# Altium footprint library IPC-7358 BGA_Sq_100P.PcbLib: 50 footprints (part 13 of 14)
Each footprint in its own frame and in the unit in brackets; x right, y up, seen from the top. Pads: shape width x height; smd on the part's side, far side on the other; paste and mask are expansions set on the pad; w line width, h text height; cw(c..) or ccw(c..) is an arc to the next point about the centre after c.
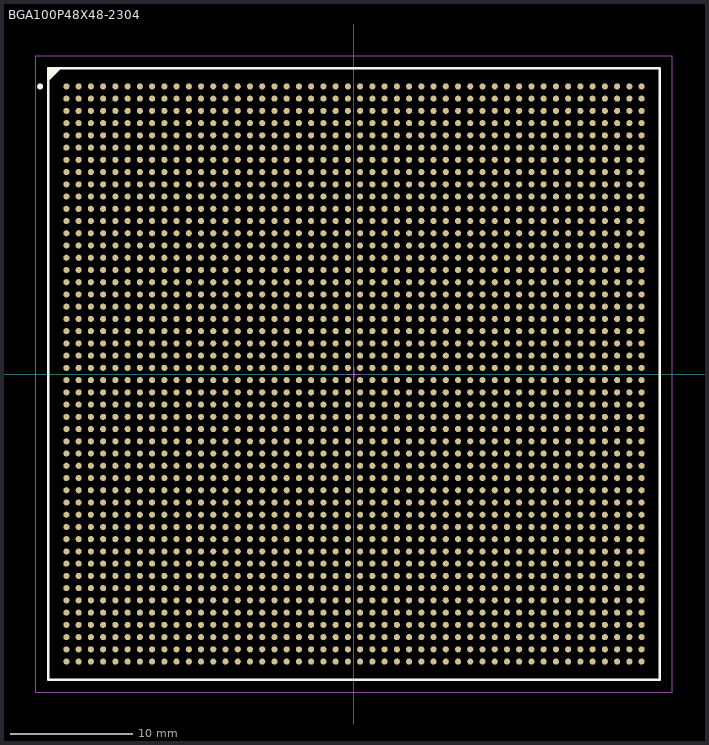
[diagram p12: the footprint, top view; thin cyan lines are the x and y axes]

## BGA100P48X48-2304 [mm] "BGA, 2304-Leads, Body 50x50mm, Pitch 1mm"
height 3.5
pads (2304):
  round 0.5 smd: A1(-23.5,23.5) A2(-22.5,23.5) A3(-21.5,23.5) A4(-20.5,23.5) A5(-19.5,23.5) A6(-18.5,23.5) A7(-17.5,23.5) A8(-16.5,23.5) A9(-15.5,23.5) A10(-14.5,23.5) A11(-13.5,23.5) A12(-12.5,23.5) A13(-11.5,23.5) A14(-10.5,23.5) A15(-9.5,23.5) A16(-8.5,23.5) A17(-7.5,23.5) A18(-6.5,23.5) A19(-5.5,23.5) A20(-4.5,23.5) A21(-3.5,23.5) A22(-2.5,23.5) A23(-1.5,23.5) A24(-0.5,23.5) A25(0.5,23.5) A26(1.5,23.5) A27(2.5,23.5) A28(3.5,23.5) A29(4.5,23.5) A30(5.5,23.5) A31(6.5,23.5) A32(7.5,23.5) A33(8.5,23.5) A34(9.5,23.5) A35(10.5,23.5) A36(11.5,23.5) A37(12.5,23.5) A38(13.5,23.5) A39(14.5,23.5) A40(15.5,23.5) A41(16.5,23.5) A42(17.5,23.5) A43(18.5,23.5) A44(19.5,23.5) A45(20.5,23.5) A46(21.5,23.5) A47(22.5,23.5) A48(23.5,23.5) AA1(-23.5,3.5) AA2(-22.5,3.5) AA3(-21.5,3.5) AA4(-20.5,3.5) AA5(-19.5,3.5) AA6(-18.5,3.5) AA7(-17.5,3.5) AA8(-16.5,3.5) AA9(-15.5,3.5) AA10(-14.5,3.5) AA11(-13.5,3.5) AA12(-12.5,3.5) AA13(-11.5,3.5) AA14(-10.5,3.5) AA15(-9.5,3.5) AA16(-8.5,3.5) AA17(-7.5,3.5) AA18(-6.5,3.5) AA19(-5.5,3.5) AA20(-4.5,3.5) AA21(-3.5,3.5) AA22(-2.5,3.5) AA23(-1.5,3.5) AA24(-0.5,3.5) AA25(0.5,3.5) AA26(1.5,3.5) AA27(2.5,3.5) AA28(3.5,3.5) AA29(4.5,3.5) AA30(5.5,3.5) AA31(6.5,3.5) AA32(7.5,3.5) AA33(8.5,3.5) AA34(9.5,3.5) AA35(10.5,3.5) AA36(11.5,3.5) AA37(12.5,3.5) AA38(13.5,3.5) AA39(14.5,3.5) AA40(15.5,3.5) AA41(16.5,3.5) AA42(17.5,3.5) AA43(18.5,3.5) AA44(19.5,3.5) AA45(20.5,3.5) AA46(21.5,3.5) AA47(22.5,3.5) AA48(23.5,3.5) AB1(-23.5,2.5) AB2(-22.5,2.5) AB3(-21.5,2.5) AB4(-20.5,2.5) AB5(-19.5,2.5) AB6(-18.5,2.5) AB7(-17.5,2.5) AB8(-16.5,2.5) AB9(-15.5,2.5) AB10(-14.5,2.5) AB11(-13.5,2.5) AB12(-12.5,2.5) AB13(-11.5,2.5) AB14(-10.5,2.5) AB15(-9.5,2.5) AB16(-8.5,2.5) AB17(-7.5,2.5) AB18(-6.5,2.5) AB19(-5.5,2.5) AB20(-4.5,2.5) AB21(-3.5,2.5) AB22(-2.5,2.5) AB23(-1.5,2.5) AB24(-0.5,2.5) AB25(0.5,2.5) AB26(1.5,2.5) AB27(2.5,2.5) AB28(3.5,2.5) AB29(4.5,2.5) AB30(5.5,2.5) AB31(6.5,2.5) AB32(7.5,2.5) AB33(8.5,2.5) AB34(9.5,2.5) AB35(10.5,2.5) AB36(11.5,2.5) AB37(12.5,2.5) AB38(13.5,2.5) AB39(14.5,2.5) AB40(15.5,2.5) AB41(16.5,2.5) AB42(17.5,2.5) AB43(18.5,2.5) AB44(19.5,2.5) AB45(20.5,2.5) AB46(21.5,2.5) AB47(22.5,2.5) AB48(23.5,2.5) AC1(-23.5,1.5) AC2(-22.5,1.5) AC3(-21.5,1.5) AC4(-20.5,1.5) AC5(-19.5,1.5) AC6(-18.5,1.5) AC7(-17.5,1.5) AC8(-16.5,1.5) AC9(-15.5,1.5) AC10(-14.5,1.5) AC11(-13.5,1.5) AC12(-12.5,1.5) AC13(-11.5,1.5) AC14(-10.5,1.5) AC15(-9.5,1.5) AC16(-8.5,1.5) AC17(-7.5,1.5) AC18(-6.5,1.5) AC19(-5.5,1.5) AC20(-4.5,1.5) AC21(-3.5,1.5) AC22(-2.5,1.5) AC23(-1.5,1.5) AC24(-0.5,1.5) AC25(0.5,1.5) AC26(1.5,1.5) AC27(2.5,1.5) AC28(3.5,1.5) AC29(4.5,1.5) AC30(5.5,1.5) AC31(6.5,1.5) AC32(7.5,1.5) AC33(8.5,1.5) AC34(9.5,1.5) AC35(10.5,1.5) AC36(11.5,1.5) AC37(12.5,1.5) AC38(13.5,1.5) AC39(14.5,1.5) AC40(15.5,1.5) AC41(16.5,1.5) AC42(17.5,1.5) AC43(18.5,1.5) AC44(19.5,1.5) AC45(20.5,1.5) AC46(21.5,1.5) AC47(22.5,1.5) AC48(23.5,1.5) AD1(-23.5,0.5) AD2(-22.5,0.5) AD3(-21.5,0.5) AD4(-20.5,0.5) AD5(-19.5,0.5) AD6(-18.5,0.5) AD7(-17.5,0.5) AD8(-16.5,0.5) AD9(-15.5,0.5) AD10(-14.5,0.5) AD11(-13.5,0.5) AD12(-12.5,0.5) AD13(-11.5,0.5) AD14(-10.5,0.5) AD15(-9.5,0.5) AD16(-8.5,0.5) AD17(-7.5,0.5) AD18(-6.5,0.5) AD19(-5.5,0.5) AD20(-4.5,0.5) AD21(-3.5,0.5) AD22(-2.5,0.5) AD23(-1.5,0.5) AD24(-0.5,0.5) AD25(0.5,0.5) AD26(1.5,0.5) AD27(2.5,0.5) AD28(3.5,0.5) AD29(4.5,0.5) AD30(5.5,0.5) AD31(6.5,0.5) AD32(7.5,0.5) AD33(8.5,0.5) AD34(9.5,0.5) AD35(10.5,0.5) AD36(11.5,0.5) AD37(12.5,0.5) AD38(13.5,0.5) AD39(14.5,0.5) AD40(15.5,0.5) AD41(16.5,0.5) AD42(17.5,0.5) AD43(18.5,0.5) AD44(19.5,0.5) AD45(20.5,0.5) AD46(21.5,0.5) AD47(22.5,0.5) AD48(23.5,0.5) AE1(-23.5,-0.5) AE2(-22.5,-0.5) AE3(-21.5,-0.5) AE4(-20.5,-0.5) AE5(-19.5,-0.5) AE6(-18.5,-0.5) AE7(-17.5,-0.5) AE8(-16.5,-0.5) AE9(-15.5,-0.5) AE10(-14.5,-0.5) AE11(-13.5,-0.5) AE12(-12.5,-0.5) AE13(-11.5,-0.5) AE14(-10.5,-0.5) AE15(-9.5,-0.5) AE16(-8.5,-0.5) AE17(-7.5,-0.5) AE18(-6.5,-0.5) AE19(-5.5,-0.5) AE20(-4.5,-0.5) AE21(-3.5,-0.5) AE22(-2.5,-0.5) AE23(-1.5,-0.5) AE24(-0.5,-0.5) AE25(0.5,-0.5) AE26(1.5,-0.5) AE27(2.5,-0.5) AE28(3.5,-0.5) AE29(4.5,-0.5) AE30(5.5,-0.5) AE31(6.5,-0.5) AE32(7.5,-0.5) AE33(8.5,-0.5) AE34(9.5,-0.5) AE35(10.5,-0.5) AE36(11.5,-0.5) AE37(12.5,-0.5) AE38(13.5,-0.5) AE39(14.5,-0.5) AE40(15.5,-0.5) AE41(16.5,-0.5) AE42(17.5,-0.5) AE43(18.5,-0.5) AE44(19.5,-0.5) AE45(20.5,-0.5) AE46(21.5,-0.5) AE47(22.5,-0.5) AE48(23.5,-0.5) AF1(-23.5,-1.5) AF2(-22.5,-1.5) AF3(-21.5,-1.5) AF4(-20.5,-1.5) AF5(-19.5,-1.5) AF6(-18.5,-1.5) AF7(-17.5,-1.5) AF8(-16.5,-1.5) AF9(-15.5,-1.5) AF10(-14.5,-1.5) AF11(-13.5,-1.5) AF12(-12.5,-1.5) AF13(-11.5,-1.5) AF14(-10.5,-1.5) AF15(-9.5,-1.5) AF16(-8.5,-1.5) AF17(-7.5,-1.5) AF18(-6.5,-1.5) AF19(-5.5,-1.5) AF20(-4.5,-1.5) AF21(-3.5,-1.5) AF22(-2.5,-1.5) AF23(-1.5,-1.5) AF24(-0.5,-1.5) AF25(0.5,-1.5) AF26(1.5,-1.5) AF27(2.5,-1.5) AF28(3.5,-1.5) AF29(4.5,-1.5) AF30(5.5,-1.5) AF31(6.5,-1.5) AF32(7.5,-1.5) AF33(8.5,-1.5) AF34(9.5,-1.5) AF35(10.5,-1.5) AF36(11.5,-1.5) AF37(12.5,-1.5) AF38(13.5,-1.5) AF39(14.5,-1.5) AF40(15.5,-1.5) AF41(16.5,-1.5) AF42(17.5,-1.5) AF43(18.5,-1.5) AF44(19.5,-1.5) AF45(20.5,-1.5) AF46(21.5,-1.5) AF47(22.5,-1.5) AF48(23.5,-1.5) AG1(-23.5,-2.5) AG2(-22.5,-2.5) AG3(-21.5,-2.5) AG4(-20.5,-2.5) AG5(-19.5,-2.5) AG6(-18.5,-2.5) AG7(-17.5,-2.5) AG8(-16.5,-2.5) AG9(-15.5,-2.5) AG10(-14.5,-2.5) AG11(-13.5,-2.5) AG12(-12.5,-2.5) AG13(-11.5,-2.5) AG14(-10.5,-2.5) AG15(-9.5,-2.5) AG16(-8.5,-2.5) AG17(-7.5,-2.5) AG18(-6.5,-2.5) AG19(-5.5,-2.5) AG20(-4.5,-2.5) AG21(-3.5,-2.5) AG22(-2.5,-2.5) AG23(-1.5,-2.5) AG24(-0.5,-2.5) AG25(0.5,-2.5) AG26(1.5,-2.5) AG27(2.5,-2.5) AG28(3.5,-2.5) AG29(4.5,-2.5) AG30(5.5,-2.5) AG31(6.5,-2.5) AG32(7.5,-2.5) AG33(8.5,-2.5) AG34(9.5,-2.5) AG35(10.5,-2.5) AG36(11.5,-2.5) AG37(12.5,-2.5) AG38(13.5,-2.5) AG39(14.5,-2.5) AG40(15.5,-2.5) AG41(16.5,-2.5) AG42(17.5,-2.5) AG43(18.5,-2.5) AG44(19.5,-2.5) AG45(20.5,-2.5) AG46(21.5,-2.5) AG47(22.5,-2.5) AG48(23.5,-2.5) AH1(-23.5,-3.5) AH2(-22.5,-3.5) AH3(-21.5,-3.5) AH4(-20.5,-3.5) AH5(-19.5,-3.5) AH6(-18.5,-3.5) AH7(-17.5,-3.5) AH8(-16.5,-3.5) AH9(-15.5,-3.5) AH10(-14.5,-3.5) AH11(-13.5,-3.5) AH12(-12.5,-3.5) AH13(-11.5,-3.5) AH14(-10.5,-3.5) AH15(-9.5,-3.5) AH16(-8.5,-3.5) AH17(-7.5,-3.5) AH18(-6.5,-3.5) AH19(-5.5,-3.5) AH20(-4.5,-3.5) AH21(-3.5,-3.5) AH22(-2.5,-3.5) AH23(-1.5,-3.5) AH24(-0.5,-3.5) AH25(0.5,-3.5) AH26(1.5,-3.5) AH27(2.5,-3.5) AH28(3.5,-3.5) AH29(4.5,-3.5) AH30(5.5,-3.5) AH31(6.5,-3.5) AH32(7.5,-3.5) AH33(8.5,-3.5) AH34(9.5,-3.5) AH35(10.5,-3.5) AH36(11.5,-3.5) AH37(12.5,-3.5) AH38(13.5,-3.5) AH39(14.5,-3.5) AH40(15.5,-3.5) AH41(16.5,-3.5) AH42(17.5,-3.5) AH43(18.5,-3.5) AH44(19.5,-3.5) AH45(20.5,-3.5) AH46(21.5,-3.5) AH47(22.5,-3.5) AH48(23.5,-3.5) AJ1(-23.5,-4.5) AJ2(-22.5,-4.5) AJ3(-21.5,-4.5) AJ4(-20.5,-4.5) AJ5(-19.5,-4.5) AJ6(-18.5,-4.5) AJ7(-17.5,-4.5) AJ8(-16.5,-4.5) AJ9(-15.5,-4.5) AJ10(-14.5,-4.5) AJ11(-13.5,-4.5) AJ12(-12.5,-4.5) AJ13(-11.5,-4.5) AJ14(-10.5,-4.5) AJ15(-9.5,-4.5) AJ16(-8.5,-4.5) AJ17(-7.5,-4.5) AJ18(-6.5,-4.5) AJ19(-5.5,-4.5) AJ20(-4.5,-4.5) AJ21(-3.5,-4.5) AJ22(-2.5,-4.5) AJ23(-1.5,-4.5) AJ24(-0.5,-4.5) AJ25(0.5,-4.5) AJ26(1.5,-4.5) AJ27(2.5,-4.5) AJ28(3.5,-4.5) AJ29(4.5,-4.5) AJ30(5.5,-4.5) AJ31(6.5,-4.5) AJ32(7.5,-4.5) AJ33(8.5,-4.5) AJ34(9.5,-4.5) AJ35(10.5,-4.5) AJ36(11.5,-4.5) AJ37(12.5,-4.5) AJ38(13.5,-4.5) AJ39(14.5,-4.5) AJ40(15.5,-4.5) AJ41(16.5,-4.5) AJ42(17.5,-4.5) AJ43(18.5,-4.5) AJ44(19.5,-4.5) AJ45(20.5,-4.5) AJ46(21.5,-4.5) AJ47(22.5,-4.5) AJ48(23.5,-4.5) AK1(-23.5,-5.5) AK2(-22.5,-5.5) AK3(-21.5,-5.5) AK4(-20.5,-5.5) AK5(-19.5,-5.5) AK6(-18.5,-5.5) AK7(-17.5,-5.5) AK8(-16.5,-5.5) AK9(-15.5,-5.5) AK10(-14.5,-5.5) AK11(-13.5,-5.5) AK12(-12.5,-5.5) AK13(-11.5,-5.5) AK14(-10.5,-5.5) AK15(-9.5,-5.5) AK16(-8.5,-5.5) AK17(-7.5,-5.5) AK18(-6.5,-5.5) AK19(-5.5,-5.5) AK20(-4.5,-5.5) AK21(-3.5,-5.5) AK22(-2.5,-5.5) AK23(-1.5,-5.5) AK24(-0.5,-5.5) AK25(0.5,-5.5) AK26(1.5,-5.5) AK27(2.5,-5.5) AK28(3.5,-5.5) AK29(4.5,-5.5) AK30(5.5,-5.5) AK31(6.5,-5.5) AK32(7.5,-5.5) AK33(8.5,-5.5) AK34(9.5,-5.5) AK35(10.5,-5.5) AK36(11.5,-5.5) AK37(12.5,-5.5) AK38(13.5,-5.5) AK39(14.5,-5.5) AK40(15.5,-5.5) AK41(16.5,-5.5) AK42(17.5,-5.5) AK43(18.5,-5.5) AK44(19.5,-5.5) AK45(20.5,-5.5) AK46(21.5,-5.5) AK47(22.5,-5.5) AK48(23.5,-5.5) AL1(-23.5,-6.5) AL2(-22.5,-6.5) AL3(-21.5,-6.5) AL4(-20.5,-6.5) AL5(-19.5,-6.5) AL6(-18.5,-6.5) AL7(-17.5,-6.5) AL8(-16.5,-6.5) AL9(-15.5,-6.5) AL10(-14.5,-6.5) AL11(-13.5,-6.5) AL12(-12.5,-6.5) AL13(-11.5,-6.5) AL14(-10.5,-6.5) AL15(-9.5,-6.5) AL16(-8.5,-6.5) AL17(-7.5,-6.5) AL18(-6.5,-6.5) AL19(-5.5,-6.5) AL20(-4.5,-6.5) AL21(-3.5,-6.5) AL22(-2.5,-6.5) AL23(-1.5,-6.5) AL24(-0.5,-6.5) AL25(0.5,-6.5) AL26(1.5,-6.5) AL27(2.5,-6.5) AL28(3.5,-6.5) AL29(4.5,-6.5) AL30(5.5,-6.5) AL31(6.5,-6.5) AL32(7.5,-6.5) AL33(8.5,-6.5) AL34(9.5,-6.5) AL35(10.5,-6.5) AL36(11.5,-6.5) AL37(12.5,-6.5) AL38(13.5,-6.5) AL39(14.5,-6.5) AL40(15.5,-6.5) AL41(16.5,-6.5) AL42(17.5,-6.5) AL43(18.5,-6.5) AL44(19.5,-6.5) AL45(20.5,-6.5) AL46(21.5,-6.5) AL47(22.5,-6.5) AL48(23.5,-6.5) AM1(-23.5,-7.5) AM2(-22.5,-7.5) AM3(-21.5,-7.5) AM4(-20.5,-7.5) AM5(-19.5,-7.5) AM6(-18.5,-7.5) AM7(-17.5,-7.5) AM8(-16.5,-7.5) AM9(-15.5,-7.5) AM10(-14.5,-7.5) AM11(-13.5,-7.5) AM12(-12.5,-7.5) AM13(-11.5,-7.5) AM14(-10.5,-7.5) AM15(-9.5,-7.5) AM16(-8.5,-7.5) AM17(-7.5,-7.5) AM18(-6.5,-7.5) AM19(-5.5,-7.5) AM20(-4.5,-7.5) AM21(-3.5,-7.5) AM22(-2.5,-7.5) AM23(-1.5,-7.5) AM24(-0.5,-7.5) AM25(0.5,-7.5) AM26(1.5,-7.5) AM27(2.5,-7.5) AM28(3.5,-7.5) AM29(4.5,-7.5) AM30(5.5,-7.5) AM31(6.5,-7.5) AM32(7.5,-7.5) AM33(8.5,-7.5) AM34(9.5,-7.5) AM35(10.5,-7.5) AM36(11.5,-7.5) AM37(12.5,-7.5) AM38(13.5,-7.5) AM39(14.5,-7.5) AM40(15.5,-7.5) AM41(16.5,-7.5) AM42(17.5,-7.5) AM43(18.5,-7.5) AM44(19.5,-7.5) AM45(20.5,-7.5) AM46(21.5,-7.5) AM47(22.5,-7.5) AM48(23.5,-7.5) AN1(-23.5,-8.5) AN2(-22.5,-8.5) AN3(-21.5,-8.5) AN4(-20.5,-8.5) AN5(-19.5,-8.5) AN6(-18.5,-8.5) AN7(-17.5,-8.5) AN8(-16.5,-8.5) AN9(-15.5,-8.5) AN10(-14.5,-8.5) AN11(-13.5,-8.5) AN12(-12.5,-8.5) AN13(-11.5,-8.5) AN14(-10.5,-8.5) AN15(-9.5,-8.5) AN16(-8.5,-8.5) AN17(-7.5,-8.5) AN18(-6.5,-8.5) AN19(-5.5,-8.5) AN20(-4.5,-8.5) AN21(-3.5,-8.5) AN22(-2.5,-8.5) AN23(-1.5,-8.5) AN24(-0.5,-8.5) AN25(0.5,-8.5) AN26(1.5,-8.5) AN27(2.5,-8.5) AN28(3.5,-8.5) AN29(4.5,-8.5) AN30(5.5,-8.5) AN31(6.5,-8.5) AN32(7.5,-8.5) AN33(8.5,-8.5) AN34(9.5,-8.5) AN35(10.5,-8.5) AN36(11.5,-8.5) AN37(12.5,-8.5) AN38(13.5,-8.5) AN39(14.5,-8.5) AN40(15.5,-8.5) AN41(16.5,-8.5) AN42(17.5,-8.5) AN43(18.5,-8.5) AN44(19.5,-8.5) AN45(20.5,-8.5) AN46(21.5,-8.5) AN47(22.5,-8.5) AN48(23.5,-8.5) AP1(-23.5,-9.5) AP2(-22.5,-9.5) AP3(-21.5,-9.5) AP4(-20.5,-9.5) AP5(-19.5,-9.5) AP6(-18.5,-9.5) AP7(-17.5,-9.5) AP8(-16.5,-9.5) AP9(-15.5,-9.5) AP10(-14.5,-9.5) AP11(-13.5,-9.5) AP12(-12.5,-9.5) AP13(-11.5,-9.5) AP14(-10.5,-9.5) AP15(-9.5,-9.5) AP16(-8.5,-9.5) AP17(-7.5,-9.5) AP18(-6.5,-9.5) AP19(-5.5,-9.5) AP20(-4.5,-9.5) AP21(-3.5,-9.5) AP22(-2.5,-9.5) AP23(-1.5,-9.5) AP24(-0.5,-9.5) AP25(0.5,-9.5) AP26(1.5,-9.5) AP27(2.5,-9.5) AP28(3.5,-9.5) AP29(4.5,-9.5) AP30(5.5,-9.5) AP31(6.5,-9.5) AP32(7.5,-9.5) AP33(8.5,-9.5) AP34(9.5,-9.5) AP35(10.5,-9.5) AP36(11.5,-9.5) AP37(12.5,-9.5) AP38(13.5,-9.5) AP39(14.5,-9.5) AP40(15.5,-9.5) AP41(16.5,-9.5) AP42(17.5,-9.5) AP43(18.5,-9.5) AP44(19.5,-9.5) AP45(20.5,-9.5) AP46(21.5,-9.5) AP47(22.5,-9.5) AP48(23.5,-9.5) AR1(-23.5,-10.5) AR2(-22.5,-10.5) AR3(-21.5,-10.5) AR4(-20.5,-10.5) AR5(-19.5,-10.5) AR6(-18.5,-10.5) AR7(-17.5,-10.5) AR8(-16.5,-10.5) AR9(-15.5,-10.5) AR10(-14.5,-10.5) AR11(-13.5,-10.5) AR12(-12.5,-10.5) AR13(-11.5,-10.5) AR14(-10.5,-10.5) AR15(-9.5,-10.5) AR16(-8.5,-10.5) AR17(-7.5,-10.5) AR18(-6.5,-10.5) AR19(-5.5,-10.5) AR20(-4.5,-10.5) AR21(-3.5,-10.5) AR22(-2.5,-10.5) AR23(-1.5,-10.5) AR24(-0.5,-10.5) AR25(0.5,-10.5) AR26(1.5,-10.5) AR27(2.5,-10.5) AR28(3.5,-10.5) AR29(4.5,-10.5) AR30(5.5,-10.5) AR31(6.5,-10.5) AR32(7.5,-10.5) AR33(8.5,-10.5) AR34(9.5,-10.5) AR35(10.5,-10.5) AR36(11.5,-10.5) AR37(12.5,-10.5) AR38(13.5,-10.5) AR39(14.5,-10.5) AR40(15.5,-10.5) AR41(16.5,-10.5) AR42(17.5,-10.5) AR43(18.5,-10.5) AR44(19.5,-10.5) AR45(20.5,-10.5) AR46(21.5,-10.5) AR47(22.5,-10.5) AR48(23.5,-10.5) AT1(-23.5,-11.5) AT2(-22.5,-11.5) AT3(-21.5,-11.5) AT4(-20.5,-11.5) AT5(-19.5,-11.5) AT6(-18.5,-11.5) AT7(-17.5,-11.5) AT8(-16.5,-11.5) AT9(-15.5,-11.5) AT10(-14.5,-11.5) AT11(-13.5,-11.5) AT12(-12.5,-11.5) AT13(-11.5,-11.5) AT14(-10.5,-11.5) AT15(-9.5,-11.5) AT16(-8.5,-11.5) AT17(-7.5,-11.5) AT18(-6.5,-11.5) AT19(-5.5,-11.5) AT20(-4.5,-11.5) AT21(-3.5,-11.5) AT22(-2.5,-11.5) AT23(-1.5,-11.5) AT24(-0.5,-11.5) AT25(0.5,-11.5) AT26(1.5,-11.5) AT27(2.5,-11.5) AT28(3.5,-11.5) AT29(4.5,-11.5) AT30(5.5,-11.5) AT31(6.5,-11.5) AT32(7.5,-11.5) AT33(8.5,-11.5) AT34(9.5,-11.5) AT35(10.5,-11.5) AT36(11.5,-11.5) AT37(12.5,-11.5) AT38(13.5,-11.5) AT39(14.5,-11.5) AT40(15.5,-11.5) AT41(16.5,-11.5) AT42(17.5,-11.5) AT43(18.5,-11.5) AT44(19.5,-11.5) AT45(20.5,-11.5) AT46(21.5,-11.5) AT47(22.5,-11.5) AT48(23.5,-11.5) AU1(-23.5,-12.5) AU2(-22.5,-12.5) AU3(-21.5,-12.5) AU4(-20.5,-12.5) AU5(-19.5,-12.5) AU6(-18.5,-12.5) AU7(-17.5,-12.5) AU8(-16.5,-12.5) AU9(-15.5,-12.5) AU10(-14.5,-12.5) AU11(-13.5,-12.5) AU12(-12.5,-12.5) AU13(-11.5,-12.5) AU14(-10.5,-12.5) AU15(-9.5,-12.5) AU16(-8.5,-12.5) AU17(-7.5,-12.5) AU18(-6.5,-12.5) AU19(-5.5,-12.5) AU20(-4.5,-12.5) AU21(-3.5,-12.5) AU22(-2.5,-12.5) AU23(-1.5,-12.5) AU24(-0.5,-12.5) AU25(0.5,-12.5) AU26(1.5,-12.5) AU27(2.5,-12.5) AU28(3.5,-12.5) AU29(4.5,-12.5) AU30(5.5,-12.5) AU31(6.5,-12.5) AU32(7.5,-12.5) AU33(8.5,-12.5) AU34(9.5,-12.5) AU35(10.5,-12.5) AU36(11.5,-12.5) AU37(12.5,-12.5) AU38(13.5,-12.5) AU39(14.5,-12.5) AU40(15.5,-12.5) AU41(16.5,-12.5) AU42(17.5,-12.5) AU43(18.5,-12.5) AU44(19.5,-12.5) AU45(20.5,-12.5) AU46(21.5,-12.5) AU47(22.5,-12.5) AU48(23.5,-12.5) AV1(-23.5,-13.5) AV2(-22.5,-13.5) AV3(-21.5,-13.5) AV4(-20.5,-13.5) AV5(-19.5,-13.5) AV6(-18.5,-13.5) AV7(-17.5,-13.5) AV8(-16.5,-13.5) AV9(-15.5,-13.5) AV10(-14.5,-13.5) AV11(-13.5,-13.5) AV12(-12.5,-13.5) AV13(-11.5,-13.5) AV14(-10.5,-13.5) AV15(-9.5,-13.5) AV16(-8.5,-13.5) AV17(-7.5,-13.5) AV18(-6.5,-13.5) AV19(-5.5,-13.5) AV20(-4.5,-13.5) AV21(-3.5,-13.5) AV22(-2.5,-13.5) AV23(-1.5,-13.5) AV24(-0.5,-13.5) AV25(0.5,-13.5) AV26(1.5,-13.5) AV27(2.5,-13.5) AV28(3.5,-13.5) AV29(4.5,-13.5) AV30(5.5,-13.5) AV31(6.5,-13.5) AV32(7.5,-13.5) AV33(8.5,-13.5) AV34(9.5,-13.5) AV35(10.5,-13.5) AV36(11.5,-13.5) AV37(12.5,-13.5) AV38(13.5,-13.5) AV39(14.5,-13.5) AV40(15.5,-13.5) AV41(16.5,-13.5) AV42(17.5,-13.5) AV43(18.5,-13.5) AV44(19.5,-13.5) AV45(20.5,-13.5) AV46(21.5,-13.5) AV47(22.5,-13.5) AV48(23.5,-13.5) AW1(-23.5,-14.5) AW2(-22.5,-14.5) AW3(-21.5,-14.5) AW4(-20.5,-14.5) AW5(-19.5,-14.5) AW6(-18.5,-14.5) AW7(-17.5,-14.5) AW8(-16.5,-14.5) AW9(-15.5,-14.5) AW10(-14.5,-14.5) AW11(-13.5,-14.5) AW12(-12.5,-14.5) AW13(-11.5,-14.5) AW14(-10.5,-14.5) AW15(-9.5,-14.5) AW16(-8.5,-14.5) AW17(-7.5,-14.5) AW18(-6.5,-14.5) AW19(-5.5,-14.5) AW20(-4.5,-14.5) AW21(-3.5,-14.5) AW22(-2.5,-14.5) AW23(-1.5,-14.5) AW24(-0.5,-14.5) AW25(0.5,-14.5) AW26(1.5,-14.5) AW27(2.5,-14.5) AW28(3.5,-14.5) AW29(4.5,-14.5) AW30(5.5,-14.5) AW31(6.5,-14.5) AW32(7.5,-14.5) AW33(8.5,-14.5) AW34(9.5,-14.5) AW35(10.5,-14.5) AW36(11.5,-14.5) AW37(12.5,-14.5) AW38(13.5,-14.5) AW39(14.5,-14.5) AW40(15.5,-14.5) AW41(16.5,-14.5) AW42(17.5,-14.5) AW43(18.5,-14.5) AW44(19.5,-14.5) AW45(20.5,-14.5) AW46(21.5,-14.5) AW47(22.5,-14.5) AW48(23.5,-14.5) AY1(-23.5,-15.5) AY2(-22.5,-15.5) AY3(-21.5,-15.5) AY4(-20.5,-15.5) AY5(-19.5,-15.5) AY6(-18.5,-15.5) AY7(-17.5,-15.5) AY8(-16.5,-15.5) AY9(-15.5,-15.5) AY10(-14.5,-15.5) AY11(-13.5,-15.5) AY12(-12.5,-15.5) AY13(-11.5,-15.5) AY14(-10.5,-15.5) AY15(-9.5,-15.5) AY16(-8.5,-15.5) AY17(-7.5,-15.5) AY18(-6.5,-15.5) AY19(-5.5,-15.5) AY20(-4.5,-15.5) AY21(-3.5,-15.5) AY22(-2.5,-15.5) AY23(-1.5,-15.5) AY24(-0.5,-15.5) AY25(0.5,-15.5) AY26(1.5,-15.5) AY27(2.5,-15.5) AY28(3.5,-15.5) AY29(4.5,-15.5) AY30(5.5,-15.5) AY31(6.5,-15.5) AY32(7.5,-15.5) AY33(8.5,-15.5) AY34(9.5,-15.5) AY35(10.5,-15.5) AY36(11.5,-15.5) AY37(12.5,-15.5) AY38(13.5,-15.5) AY39(14.5,-15.5) AY40(15.5,-15.5) AY41(16.5,-15.5) AY42(17.5,-15.5) AY43(18.5,-15.5) AY44(19.5,-15.5) AY45(20.5,-15.5) AY46(21.5,-15.5) AY47(22.5,-15.5) AY48(23.5,-15.5) B1(-23.5,22.5) B2(-22.5,22.5) B3(-21.5,22.5) B4(-20.5,22.5) B5(-19.5,22.5) B6(-18.5,22.5) B7(-17.5,22.5) B8(-16.5,22.5) B9(-15.5,22.5) B10(-14.5,22.5) B11(-13.5,22.5) B12(-12.5,22.5) B13(-11.5,22.5) B14(-10.5,22.5) B15(-9.5,22.5) B16(-8.5,22.5) B17(-7.5,22.5) B18(-6.5,22.5) B19(-5.5,22.5) B20(-4.5,22.5) B21(-3.5,22.5) B22(-2.5,22.5) B23(-1.5,22.5) B24(-0.5,22.5) B25(0.5,22.5) B26(1.5,22.5) B27(2.5,22.5) B28(3.5,22.5) B29(4.5,22.5) B30(5.5,22.5) B31(6.5,22.5) B32(7.5,22.5) B33(8.5,22.5) B34(9.5,22.5) B35(10.5,22.5) B36(11.5,22.5) B37(12.5,22.5) B38(13.5,22.5) B39(14.5,22.5) B40(15.5,22.5) B41(16.5,22.5) B42(17.5,22.5) B43(18.5,22.5) B44(19.5,22.5) B45(20.5,22.5) B46(21.5,22.5) B47(22.5,22.5) B48(23.5,22.5) BA1(-23.5,-16.5) BA2(-22.5,-16.5) BA3(-21.5,-16.5) BA4(-20.5,-16.5) BA5(-19.5,-16.5) BA6(-18.5,-16.5) BA7(-17.5,-16.5) BA8(-16.5,-16.5) BA9(-15.5,-16.5) BA10(-14.5,-16.5) BA11(-13.5,-16.5) BA12(-12.5,-16.5) BA13(-11.5,-16.5) BA14(-10.5,-16.5) BA15(-9.5,-16.5) BA16(-8.5,-16.5) BA17(-7.5,-16.5) BA18(-6.5,-16.5) BA19(-5.5,-16.5) BA20(-4.5,-16.5) BA21(-3.5,-16.5) BA22(-2.5,-16.5) BA23(-1.5,-16.5) BA24(-0.5,-16.5) BA25(0.5,-16.5) BA26(1.5,-16.5) BA27(2.5,-16.5) BA28(3.5,-16.5) BA29(4.5,-16.5) BA30(5.5,-16.5) BA31(6.5,-16.5) BA32(7.5,-16.5) BA33(8.5,-16.5) BA34(9.5,-16.5) BA35(10.5,-16.5) BA36(11.5,-16.5) BA37(12.5,-16.5) BA38(13.5,-16.5) BA39(14.5,-16.5) BA40(15.5,-16.5) BA41(16.5,-16.5) BA42(17.5,-16.5) BA43(18.5,-16.5) BA44(19.5,-16.5) BA45(20.5,-16.5) BA46(21.5,-16.5) BA47(22.5,-16.5) BA48(23.5,-16.5) BB1(-23.5,-17.5) BB2(-22.5,-17.5) BB3(-21.5,-17.5) BB4(-20.5,-17.5) BB5(-19.5,-17.5) BB6(-18.5,-17.5) BB7(-17.5,-17.5) BB8(-16.5,-17.5) BB9(-15.5,-17.5) BB10(-14.5,-17.5) BB11(-13.5,-17.5) BB12(-12.5,-17.5) BB13(-11.5,-17.5) BB14(-10.5,-17.5) BB15(-9.5,-17.5) BB16(-8.5,-17.5) BB17(-7.5,-17.5) BB18(-6.5,-17.5) BB19(-5.5,-17.5) BB20(-4.5,-17.5) BB21(-3.5,-17.5) BB22(-2.5,-17.5) BB23(-1.5,-17.5) BB24(-0.5,-17.5) BB25(0.5,-17.5) BB26(1.5,-17.5) BB27(2.5,-17.5) BB28(3.5,-17.5) BB29(4.5,-17.5) BB30(5.5,-17.5) BB31(6.5,-17.5) BB32(7.5,-17.5) BB33(8.5,-17.5) BB34(9.5,-17.5) BB35(10.5,-17.5) BB36(11.5,-17.5) BB37(12.5,-17.5) BB38(13.5,-17.5) BB39(14.5,-17.5) BB40(15.5,-17.5) BB41(16.5,-17.5) BB42(17.5,-17.5) BB43(18.5,-17.5) BB44(19.5,-17.5) BB45(20.5,-17.5) BB46(21.5,-17.5) BB47(22.5,-17.5) BB48(23.5,-17.5) BC1(-23.5,-18.5) BC2(-22.5,-18.5) BC3(-21.5,-18.5) BC4(-20.5,-18.5) BC5(-19.5,-18.5) BC6(-18.5,-18.5) BC7(-17.5,-18.5) BC8(-16.5,-18.5) BC9(-15.5,-18.5) BC10(-14.5,-18.5) BC11(-13.5,-18.5) BC12(-12.5,-18.5) BC13(-11.5,-18.5) BC14(-10.5,-18.5) BC15(-9.5,-18.5) BC16(-8.5,-18.5) BC17(-7.5,-18.5) BC18(-6.5,-18.5) BC19(-5.5,-18.5) BC20(-4.5,-18.5) BC21(-3.5,-18.5) BC22(-2.5,-18.5) BC23(-1.5,-18.5) BC24(-0.5,-18.5) BC25(0.5,-18.5) BC26(1.5,-18.5) BC27(2.5,-18.5) BC28(3.5,-18.5) BC29(4.5,-18.5) BC30(5.5,-18.5) BC31(6.5,-18.5) BC32(7.5,-18.5) BC33(8.5,-18.5) BC34(9.5,-18.5) BC35(10.5,-18.5) BC36(11.5,-18.5) BC37(12.5,-18.5) BC38(13.5,-18.5) BC39(14.5,-18.5) BC40(15.5,-18.5) BC41(16.5,-18.5) BC42(17.5,-18.5) BC43(18.5,-18.5) BC44(19.5,-18.5) BC45(20.5,-18.5) BC46(21.5,-18.5) BC47(22.5,-18.5) BC48(23.5,-18.5) BD1(-23.5,-19.5) BD2(-22.5,-19.5) BD3(-21.5,-19.5) BD4(-20.5,-19.5) BD5(-19.5,-19.5) BD6(-18.5,-19.5) BD7(-17.5,-19.5) BD8(-16.5,-19.5) BD9(-15.5,-19.5) BD10(-14.5,-19.5) BD11(-13.5,-19.5) BD12(-12.5,-19.5) BD13(-11.5,-19.5) BD14(-10.5,-19.5) BD15(-9.5,-19.5) BD16(-8.5,-19.5) BD17(-7.5,-19.5) BD18(-6.5,-19.5) BD19(-5.5,-19.5) BD20(-4.5,-19.5) BD21(-3.5,-19.5) BD22(-2.5,-19.5) BD23(-1.5,-19.5) BD24(-0.5,-19.5) BD25(0.5,-19.5) BD26(1.5,-19.5) BD27(2.5,-19.5) BD28(3.5,-19.5) BD29(4.5,-19.5) BD30(5.5,-19.5) BD31(6.5,-19.5) BD32(7.5,-19.5) BD33(8.5,-19.5) BD34(9.5,-19.5) BD35(10.5,-19.5) BD36(11.5,-19.5) BD37(12.5,-19.5) BD38(13.5,-19.5) BD39(14.5,-19.5) BD40(15.5,-19.5) BD41(16.5,-19.5) BD42(17.5,-19.5) BD43(18.5,-19.5) BD44(19.5,-19.5) BD45(20.5,-19.5) BD46(21.5,-19.5) BD47(22.5,-19.5) BD48(23.5,-19.5) BE1(-23.5,-20.5) BE2(-22.5,-20.5) BE3(-21.5,-20.5) BE4(-20.5,-20.5) BE5(-19.5,-20.5) BE6(-18.5,-20.5) BE7(-17.5,-20.5) BE8(-16.5,-20.5) BE9(-15.5,-20.5) BE10(-14.5,-20.5) BE11(-13.5,-20.5) BE12(-12.5,-20.5) BE13(-11.5,-20.5) BE14(-10.5,-20.5) BE15(-9.5,-20.5) BE16(-8.5,-20.5) BE17(-7.5,-20.5) BE18(-6.5,-20.5) BE19(-5.5,-20.5) BE20(-4.5,-20.5) BE21(-3.5,-20.5) BE22(-2.5,-20.5) BE23(-1.5,-20.5) BE24(-0.5,-20.5) BE25(0.5,-20.5) BE26(1.5,-20.5) BE27(2.5,-20.5) BE28(3.5,-20.5) BE29(4.5,-20.5) BE30(5.5,-20.5) BE31(6.5,-20.5) BE32(7.5,-20.5) BE33(8.5,-20.5) BE34(9.5,-20.5) BE35(10.5,-20.5) BE36(11.5,-20.5) BE37(12.5,-20.5) BE38(13.5,-20.5) BE39(14.5,-20.5) BE40(15.5,-20.5) BE41(16.5,-20.5) BE42(17.5,-20.5) BE43(18.5,-20.5) BE44(19.5,-20.5) BE45(20.5,-20.5) BE46(21.5,-20.5) BE47(22.5,-20.5) BE48(23.5,-20.5) BF1(-23.5,-21.5) BF2(-22.5,-21.5) BF3(-21.5,-21.5) BF4(-20.5,-21.5) BF5(-19.5,-21.5) BF6(-18.5,-21.5) BF7(-17.5,-21.5) BF8(-16.5,-21.5) BF9(-15.5,-21.5) BF10(-14.5,-21.5) BF11(-13.5,-21.5) BF12(-12.5,-21.5) BF13(-11.5,-21.5) BF14(-10.5,-21.5) BF15(-9.5,-21.5) BF16(-8.5,-21.5) BF17(-7.5,-21.5) BF18(-6.5,-21.5) BF19(-5.5,-21.5) BF20(-4.5,-21.5) BF21(-3.5,-21.5) BF22(-2.5,-21.5) BF23(-1.5,-21.5) BF24(-0.5,-21.5) BF25(0.5,-21.5) BF26(1.5,-21.5) BF27(2.5,-21.5) BF28(3.5,-21.5) BF29(4.5,-21.5) BF30(5.5,-21.5) BF31(6.5,-21.5) BF32(7.5,-21.5) BF33(8.5,-21.5) BF34(9.5,-21.5) BF35(10.5,-21.5) BF36(11.5,-21.5) BF37(12.5,-21.5) BF38(13.5,-21.5) BF39(14.5,-21.5) BF40(15.5,-21.5) BF41(16.5,-21.5) BF42(17.5,-21.5) BF43(18.5,-21.5) BF44(19.5,-21.5) BF45(20.5,-21.5) BF46(21.5,-21.5) BF47(22.5,-21.5) BF48(23.5,-21.5) BG1(-23.5,-22.5) BG2(-22.5,-22.5) BG3(-21.5,-22.5) BG4(-20.5,-22.5) BG5(-19.5,-22.5) BG6(-18.5,-22.5) BG7(-17.5,-22.5) BG8(-16.5,-22.5) BG9(-15.5,-22.5) BG10(-14.5,-22.5) BG11(-13.5,-22.5) BG12(-12.5,-22.5) BG13(-11.5,-22.5) BG14(-10.5,-22.5) BG15(-9.5,-22.5) BG16(-8.5,-22.5) BG17(-7.5,-22.5) BG18(-6.5,-22.5) BG19(-5.5,-22.5) BG20(-4.5,-22.5) BG21(-3.5,-22.5) BG22(-2.5,-22.5) BG23(-1.5,-22.5) BG24(-0.5,-22.5) BG25(0.5,-22.5) BG26(1.5,-22.5) BG27(2.5,-22.5) BG28(3.5,-22.5) BG29(4.5,-22.5) BG30(5.5,-22.5) BG31(6.5,-22.5) BG32(7.5,-22.5) BG33(8.5,-22.5) BG34(9.5,-22.5) BG35(10.5,-22.5) BG36(11.5,-22.5) BG37(12.5,-22.5) BG38(13.5,-22.5) BG39(14.5,-22.5) BG40(15.5,-22.5) BG41(16.5,-22.5) BG42(17.5,-22.5) BG43(18.5,-22.5) BG44(19.5,-22.5) BG45(20.5,-22.5) BG46(21.5,-22.5) BG47(22.5,-22.5) BG48(23.5,-22.5) BH1(-23.5,-23.5) BH2(-22.5,-23.5) BH3(-21.5,-23.5) BH4(-20.5,-23.5) BH5(-19.5,-23.5) BH6(-18.5,-23.5) BH7(-17.5,-23.5) BH8(-16.5,-23.5) BH9(-15.5,-23.5) BH10(-14.5,-23.5) BH11(-13.5,-23.5) BH12(-12.5,-23.5) BH13(-11.5,-23.5) BH14(-10.5,-23.5) BH15(-9.5,-23.5) BH16(-8.5,-23.5) BH17(-7.5,-23.5) BH18(-6.5,-23.5) BH19(-5.5,-23.5) BH20(-4.5,-23.5) BH21(-3.5,-23.5) BH22(-2.5,-23.5) BH23(-1.5,-23.5) BH24(-0.5,-23.5) BH25(0.5,-23.5) BH26(1.5,-23.5) BH27(2.5,-23.5) BH28(3.5,-23.5) BH29(4.5,-23.5) BH30(5.5,-23.5) BH31(6.5,-23.5) BH32(7.5,-23.5) BH33(8.5,-23.5) BH34(9.5,-23.5) BH35(10.5,-23.5) BH36(11.5,-23.5) BH37(12.5,-23.5) BH38(13.5,-23.5) BH39(14.5,-23.5) BH40(15.5,-23.5) BH41(16.5,-23.5) BH42(17.5,-23.5) BH43(18.5,-23.5) BH44(19.5,-23.5) BH45(20.5,-23.5) BH46(21.5,-23.5) BH47(22.5,-23.5) BH48(23.5,-23.5) C1(-23.5,21.5) C2(-22.5,21.5) C3(-21.5,21.5) C4(-20.5,21.5) C5(-19.5,21.5) C6(-18.5,21.5) C7(-17.5,21.5) C8(-16.5,21.5) C9(-15.5,21.5) C10(-14.5,21.5) C11(-13.5,21.5) C12(-12.5,21.5) C13(-11.5,21.5) C14(-10.5,21.5) C15(-9.5,21.5) C16(-8.5,21.5) C17(-7.5,21.5) C18(-6.5,21.5) C19(-5.5,21.5) C20(-4.5,21.5) C21(-3.5,21.5) C22(-2.5,21.5) C23(-1.5,21.5) C24(-0.5,21.5) C25(0.5,21.5) C26(1.5,21.5) C27(2.5,21.5) C28(3.5,21.5) C29(4.5,21.5) C30(5.5,21.5) C31(6.5,21.5) C32(7.5,21.5) C33(8.5,21.5) C34(9.5,21.5) C35(10.5,21.5) C36(11.5,21.5) C37(12.5,21.5) C38(13.5,21.5) C39(14.5,21.5) C40(15.5,21.5) C41(16.5,21.5) C42(17.5,21.5) C43(18.5,21.5) C44(19.5,21.5) C45(20.5,21.5) C46(21.5,21.5) C47(22.5,21.5) C48(23.5,21.5) D1(-23.5,20.5) D2(-22.5,20.5) D3(-21.5,20.5) D4(-20.5,20.5) D5(-19.5,20.5) D6(-18.5,20.5) D7(-17.5,20.5) D8(-16.5,20.5) D9(-15.5,20.5) D10(-14.5,20.5) D11(-13.5,20.5) D12(-12.5,20.5) D13(-11.5,20.5) D14(-10.5,20.5) D15(-9.5,20.5) D16(-8.5,20.5) D17(-7.5,20.5) D18(-6.5,20.5) D19(-5.5,20.5) D20(-4.5,20.5) D21(-3.5,20.5) D22(-2.5,20.5) D23(-1.5,20.5) D24(-0.5,20.5) D25(0.5,20.5) D26(1.5,20.5) D27(2.5,20.5) D28(3.5,20.5) D29(4.5,20.5) D30(5.5,20.5) D31(6.5,20.5) D32(7.5,20.5) D33(8.5,20.5) D34(9.5,20.5) D35(10.5,20.5) D36(11.5,20.5) D37(12.5,20.5) D38(13.5,20.5) D39(14.5,20.5) D40(15.5,20.5) D41(16.5,20.5) D42(17.5,20.5) D43(18.5,20.5) D44(19.5,20.5) D45(20.5,20.5) D46(21.5,20.5) D47(22.5,20.5) D48(23.5,20.5) E1(-23.5,19.5) E2(-22.5,19.5) E3(-21.5,19.5) E4(-20.5,19.5) E5(-19.5,19.5) E6(-18.5,19.5) E7(-17.5,19.5) E8(-16.5,19.5) E9(-15.5,19.5) E10(-14.5,19.5) E11(-13.5,19.5) E12(-12.5,19.5) E13(-11.5,19.5) E14(-10.5,19.5) E15(-9.5,19.5) E16(-8.5,19.5) E17(-7.5,19.5) E18(-6.5,19.5) E19(-5.5,19.5) E20(-4.5,19.5) E21(-3.5,19.5) E22(-2.5,19.5) E23(-1.5,19.5) E24(-0.5,19.5) E25(0.5,19.5) E26(1.5,19.5) E27(2.5,19.5) E28(3.5,19.5) E29(4.5,19.5) E30(5.5,19.5) E31(6.5,19.5) E32(7.5,19.5) E33(8.5,19.5) E34(9.5,19.5) E35(10.5,19.5) E36(11.5,19.5) E37(12.5,19.5) E38(13.5,19.5) E39(14.5,19.5) E40(15.5,19.5) E41(16.5,19.5) E42(17.5,19.5) E43(18.5,19.5) E44(19.5,19.5) E45(20.5,19.5) E46(21.5,19.5) E47(22.5,19.5) E48(23.5,19.5) F1(-23.5,18.5) F2(-22.5,18.5) F3(-21.5,18.5) F4(-20.5,18.5) F5(-19.5,18.5) F6(-18.5,18.5) F7(-17.5,18.5) F8(-16.5,18.5) F9(-15.5,18.5) F10(-14.5,18.5) F11(-13.5,18.5) F12(-12.5,18.5) F13(-11.5,18.5) F14(-10.5,18.5) F15(-9.5,18.5) F16(-8.5,18.5) F17(-7.5,18.5) F18(-6.5,18.5) F19(-5.5,18.5) F20(-4.5,18.5) F21(-3.5,18.5) F22(-2.5,18.5) F23(-1.5,18.5) F24(-0.5,18.5) F25(0.5,18.5) F26(1.5,18.5) F27(2.5,18.5) F28(3.5,18.5) F29(4.5,18.5) F30(5.5,18.5) F31(6.5,18.5) F32(7.5,18.5) F33(8.5,18.5) F34(9.5,18.5) F35(10.5,18.5) F36(11.5,18.5) F37(12.5,18.5) F38(13.5,18.5) F39(14.5,18.5) F40(15.5,18.5) F41(16.5,18.5) F42(17.5,18.5) F43(18.5,18.5) F44(19.5,18.5) F45(20.5,18.5) F46(21.5,18.5) F47(22.5,18.5) F48(23.5,18.5) G1(-23.5,17.5) G2(-22.5,17.5) G3(-21.5,17.5) G4(-20.5,17.5) G5(-19.5,17.5) G6(-18.5,17.5) G7(-17.5,17.5) G8(-16.5,17.5) G9(-15.5,17.5) G10(-14.5,17.5) G11(-13.5,17.5) G12(-12.5,17.5) G13(-11.5,17.5) G14(-10.5,17.5) G15(-9.5,17.5) G16(-8.5,17.5) G17(-7.5,17.5) G18(-6.5,17.5) G19(-5.5,17.5) G20(-4.5,17.5) G21(-3.5,17.5) G22(-2.5,17.5) G23(-1.5,17.5) G24(-0.5,17.5) G25(0.5,17.5) G26(1.5,17.5) G27(2.5,17.5) G28(3.5,17.5) G29(4.5,17.5) G30(5.5,17.5) G31(6.5,17.5) G32(7.5,17.5) G33(8.5,17.5) G34(9.5,17.5) G35(10.5,17.5) G36(11.5,17.5) G37(12.5,17.5) G38(13.5,17.5) G39(14.5,17.5) G40(15.5,17.5) G41(16.5,17.5) G42(17.5,17.5) G43(18.5,17.5) G44(19.5,17.5) G45(20.5,17.5) G46(21.5,17.5) G47(22.5,17.5) G48(23.5,17.5) H1(-23.5,16.5) H2(-22.5,16.5) H3(-21.5,16.5) H4(-20.5,16.5) H5(-19.5,16.5) H6(-18.5,16.5) H7(-17.5,16.5) H8(-16.5,16.5) H9(-15.5,16.5) H10(-14.5,16.5) H11(-13.5,16.5) H12(-12.5,16.5) H13(-11.5,16.5) H14(-10.5,16.5) H15(-9.5,16.5) H16(-8.5,16.5) H17(-7.5,16.5) H18(-6.5,16.5) H19(-5.5,16.5) H20(-4.5,16.5) H21(-3.5,16.5) H22(-2.5,16.5) H23(-1.5,16.5) H24(-0.5,16.5) H25(0.5,16.5) H26(1.5,16.5) H27(2.5,16.5) H28(3.5,16.5) H29(4.5,16.5) H30(5.5,16.5) H31(6.5,16.5) H32(7.5,16.5) H33(8.5,16.5) H34(9.5,16.5) H35(10.5,16.5) H36(11.5,16.5) H37(12.5,16.5) H38(13.5,16.5) H39(14.5,16.5) H40(15.5,16.5) H41(16.5,16.5) H42(17.5,16.5) H43(18.5,16.5) H44(19.5,16.5) H45(20.5,16.5) H46(21.5,16.5) H47(22.5,16.5) H48(23.5,16.5) J1(-23.5,15.5) J2(-22.5,15.5) J3(-21.5,15.5) J4(-20.5,15.5) J5(-19.5,15.5) J6(-18.5,15.5) J7(-17.5,15.5) J8(-16.5,15.5) J9(-15.5,15.5) J10(-14.5,15.5) J11(-13.5,15.5) J12(-12.5,15.5) J13(-11.5,15.5) J14(-10.5,15.5) J15(-9.5,15.5) J16(-8.5,15.5) J17(-7.5,15.5) J18(-6.5,15.5) J19(-5.5,15.5) J20(-4.5,15.5) J21(-3.5,15.5) J22(-2.5,15.5) J23(-1.5,15.5) J24(-0.5,15.5) J25(0.5,15.5) J26(1.5,15.5) J27(2.5,15.5) J28(3.5,15.5) J29(4.5,15.5) J30(5.5,15.5) J31(6.5,15.5) J32(7.5,15.5) J33(8.5,15.5) J34(9.5,15.5) J35(10.5,15.5) J36(11.5,15.5) J37(12.5,15.5) J38(13.5,15.5) J39(14.5,15.5) J40(15.5,15.5) J41(16.5,15.5) J42(17.5,15.5) J43(18.5,15.5) J44(19.5,15.5) J45(20.5,15.5) J46(21.5,15.5) J47(22.5,15.5) J48(23.5,15.5) K1(-23.5,14.5) K2(-22.5,14.5) K3(-21.5,14.5) K4(-20.5,14.5) K5(-19.5,14.5) K6(-18.5,14.5) K7(-17.5,14.5) K8(-16.5,14.5) K9(-15.5,14.5) K10(-14.5,14.5) K11(-13.5,14.5) K12(-12.5,14.5) K13(-11.5,14.5) K14(-10.5,14.5) K15(-9.5,14.5) K16(-8.5,14.5) K17(-7.5,14.5) K18(-6.5,14.5) K19(-5.5,14.5) K20(-4.5,14.5) K21(-3.5,14.5) K22(-2.5,14.5) K23(-1.5,14.5) K24(-0.5,14.5) K25(0.5,14.5) K26(1.5,14.5) K27(2.5,14.5) K28(3.5,14.5) K29(4.5,14.5) K30(5.5,14.5) K31(6.5,14.5) K32(7.5,14.5) K33(8.5,14.5) K34(9.5,14.5) K35(10.5,14.5) K36(11.5,14.5) K37(12.5,14.5) K38(13.5,14.5) K39(14.5,14.5) K40(15.5,14.5) K41(16.5,14.5) K42(17.5,14.5) K43(18.5,14.5) K44(19.5,14.5) K45(20.5,14.5) K46(21.5,14.5) K47(22.5,14.5) K48(23.5,14.5) L1(-23.5,13.5) L2(-22.5,13.5) L3(-21.5,13.5) L4(-20.5,13.5) L5(-19.5,13.5) L6(-18.5,13.5) L7(-17.5,13.5) L8(-16.5,13.5) L9(-15.5,13.5) L10(-14.5,13.5) L11(-13.5,13.5) L12(-12.5,13.5) L13(-11.5,13.5) L14(-10.5,13.5) L15(-9.5,13.5) L16(-8.5,13.5) L17(-7.5,13.5) L18(-6.5,13.5) L19(-5.5,13.5) L20(-4.5,13.5) L21(-3.5,13.5) L22(-2.5,13.5) L23(-1.5,13.5) L24(-0.5,13.5) L25(0.5,13.5) L26(1.5,13.5) L27(2.5,13.5) L28(3.5,13.5) L29(4.5,13.5) L30(5.5,13.5) L31(6.5,13.5) L32(7.5,13.5) L33(8.5,13.5) L34(9.5,13.5) L35(10.5,13.5) L36(11.5,13.5) L37(12.5,13.5) L38(13.5,13.5) L39(14.5,13.5) L40(15.5,13.5) L41(16.5,13.5) L42(17.5,13.5) L43(18.5,13.5) L44(19.5,13.5) L45(20.5,13.5) L46(21.5,13.5) L47(22.5,13.5) L48(23.5,13.5) M1(-23.5,12.5) M2(-22.5,12.5) M3(-21.5,12.5) M4(-20.5,12.5) M5(-19.5,12.5) M6(-18.5,12.5) M7(-17.5,12.5) M8(-16.5,12.5) M9(-15.5,12.5) M10(-14.5,12.5) M11(-13.5,12.5) M12(-12.5,12.5) M13(-11.5,12.5) M14(-10.5,12.5) M15(-9.5,12.5) M16(-8.5,12.5) M17(-7.5,12.5) M18(-6.5,12.5) M19(-5.5,12.5) M20(-4.5,12.5) M21(-3.5,12.5) M22(-2.5,12.5) M23(-1.5,12.5) M24(-0.5,12.5) M25(0.5,12.5) M26(1.5,12.5) M27(2.5,12.5) M28(3.5,12.5) M29(4.5,12.5) M30(5.5,12.5) M31(6.5,12.5) M32(7.5,12.5) M33(8.5,12.5) M34(9.5,12.5) M35(10.5,12.5) M36(11.5,12.5) M37(12.5,12.5) M38(13.5,12.5) M39(14.5,12.5) M40(15.5,12.5) M41(16.5,12.5) M42(17.5,12.5) M43(18.5,12.5) M44(19.5,12.5) M45(20.5,12.5) M46(21.5,12.5) M47(22.5,12.5) M48(23.5,12.5) N1(-23.5,11.5) N2(-22.5,11.5) N3(-21.5,11.5) N4(-20.5,11.5) N5(-19.5,11.5) N6(-18.5,11.5) N7(-17.5,11.5) N8(-16.5,11.5) N9(-15.5,11.5) N10(-14.5,11.5) N11(-13.5,11.5) N12(-12.5,11.5) N13(-11.5,11.5) N14(-10.5,11.5) N15(-9.5,11.5) N16(-8.5,11.5) N17(-7.5,11.5) N18(-6.5,11.5) N19(-5.5,11.5) N20(-4.5,11.5) N21(-3.5,11.5) N22(-2.5,11.5) N23(-1.5,11.5) N24(-0.5,11.5) N25(0.5,11.5) N26(1.5,11.5) N27(2.5,11.5) N28(3.5,11.5) N29(4.5,11.5) N30(5.5,11.5) N31(6.5,11.5) N32(7.5,11.5) N33(8.5,11.5) N34(9.5,11.5) N35(10.5,11.5) N36(11.5,11.5) N37(12.5,11.5) N38(13.5,11.5) N39(14.5,11.5) N40(15.5,11.5) N41(16.5,11.5) N42(17.5,11.5) N43(18.5,11.5) N44(19.5,11.5) N45(20.5,11.5) N46(21.5,11.5) N47(22.5,11.5) N48(23.5,11.5) P1(-23.5,10.5) P2(-22.5,10.5) P3(-21.5,10.5) P4(-20.5,10.5) P5(-19.5,10.5) P6(-18.5,10.5) P7(-17.5,10.5) P8(-16.5,10.5) P9(-15.5,10.5) P10(-14.5,10.5) P11(-13.5,10.5) P12(-12.5,10.5) P13(-11.5,10.5) P14(-10.5,10.5) P15(-9.5,10.5) P16(-8.5,10.5) P17(-7.5,10.5) P18(-6.5,10.5) P19(-5.5,10.5) P20(-4.5,10.5) P21(-3.5,10.5) P22(-2.5,10.5) P23(-1.5,10.5) P24(-0.5,10.5) P25(0.5,10.5) P26(1.5,10.5) P27(2.5,10.5) P28(3.5,10.5) P29(4.5,10.5) P30(5.5,10.5) P31(6.5,10.5) P32(7.5,10.5) P33(8.5,10.5) P34(9.5,10.5) P35(10.5,10.5) P36(11.5,10.5) P37(12.5,10.5) P38(13.5,10.5) P39(14.5,10.5) P40(15.5,10.5) P41(16.5,10.5) P42(17.5,10.5) P43(18.5,10.5) P44(19.5,10.5) P45(20.5,10.5) P46(21.5,10.5) P47(22.5,10.5) P48(23.5,10.5) R1(-23.5,9.5) R2(-22.5,9.5) R3(-21.5,9.5) R4(-20.5,9.5) R5(-19.5,9.5) R6(-18.5,9.5) R7(-17.5,9.5) R8(-16.5,9.5) R9(-15.5,9.5) R10(-14.5,9.5) R11(-13.5,9.5) R12(-12.5,9.5) R13(-11.5,9.5) R14(-10.5,9.5) R15(-9.5,9.5) R16(-8.5,9.5) R17(-7.5,9.5) R18(-6.5,9.5) R19(-5.5,9.5) R20(-4.5,9.5) R21(-3.5,9.5) R22(-2.5,9.5) R23(-1.5,9.5) R24(-0.5,9.5) R25(0.5,9.5) R26(1.5,9.5) R27(2.5,9.5) R28(3.5,9.5) R29(4.5,9.5) R30(5.5,9.5) R31(6.5,9.5) R32(7.5,9.5) R33(8.5,9.5) R34(9.5,9.5) R35(10.5,9.5) R36(11.5,9.5) R37(12.5,9.5) R38(13.5,9.5) R39(14.5,9.5) R40(15.5,9.5) R41(16.5,9.5) R42(17.5,9.5) R43(18.5,9.5) R44(19.5,9.5) R45(20.5,9.5) R46(21.5,9.5) R47(22.5,9.5) R48(23.5,9.5) T1(-23.5,8.5) T2(-22.5,8.5) T3(-21.5,8.5) T4(-20.5,8.5) T5(-19.5,8.5) T6(-18.5,8.5) T7(-17.5,8.5) T8(-16.5,8.5) T9(-15.5,8.5) T10(-14.5,8.5) T11(-13.5,8.5) T12(-12.5,8.5) T13(-11.5,8.5) T14(-10.5,8.5) T15(-9.5,8.5) T16(-8.5,8.5) T17(-7.5,8.5) T18(-6.5,8.5) T19(-5.5,8.5) T20(-4.5,8.5) T21(-3.5,8.5) T22(-2.5,8.5) T23(-1.5,8.5) T24(-0.5,8.5) T25(0.5,8.5) T26(1.5,8.5) T27(2.5,8.5) T28(3.5,8.5) T29(4.5,8.5) T30(5.5,8.5) T31(6.5,8.5) T32(7.5,8.5) T33(8.5,8.5) T34(9.5,8.5) T35(10.5,8.5) T36(11.5,8.5) T37(12.5,8.5) T38(13.5,8.5) T39(14.5,8.5) T40(15.5,8.5) T41(16.5,8.5) T42(17.5,8.5) T43(18.5,8.5) T44(19.5,8.5) T45(20.5,8.5) T46(21.5,8.5) T47(22.5,8.5) T48(23.5,8.5) U1(-23.5,7.5) U2(-22.5,7.5) U3(-21.5,7.5) U4(-20.5,7.5) U5(-19.5,7.5) U6(-18.5,7.5) U7(-17.5,7.5) U8(-16.5,7.5) U9(-15.5,7.5) U10(-14.5,7.5) U11(-13.5,7.5) U12(-12.5,7.5) U13(-11.5,7.5) U14(-10.5,7.5) U15(-9.5,7.5) U16(-8.5,7.5) U17(-7.5,7.5) U18(-6.5,7.5) U19(-5.5,7.5) U20(-4.5,7.5) U21(-3.5,7.5) U22(-2.5,7.5) U23(-1.5,7.5) U24(-0.5,7.5) U25(0.5,7.5) U26(1.5,7.5) U27(2.5,7.5) U28(3.5,7.5) U29(4.5,7.5) U30(5.5,7.5) U31(6.5,7.5) U32(7.5,7.5) U33(8.5,7.5) U34(9.5,7.5) U35(10.5,7.5) U36(11.5,7.5) U37(12.5,7.5) U38(13.5,7.5) U39(14.5,7.5) U40(15.5,7.5) U41(16.5,7.5) U42(17.5,7.5) U43(18.5,7.5) U44(19.5,7.5) U45(20.5,7.5) U46(21.5,7.5) U47(22.5,7.5) U48(23.5,7.5) V1(-23.5,6.5) V2(-22.5,6.5) V3(-21.5,6.5) V4(-20.5,6.5) V5(-19.5,6.5) V6(-18.5,6.5) V7(-17.5,6.5) V8(-16.5,6.5) V9(-15.5,6.5) V10(-14.5,6.5) V11(-13.5,6.5) V12(-12.5,6.5) V13(-11.5,6.5) V14(-10.5,6.5) V15(-9.5,6.5) V16(-8.5,6.5) V17(-7.5,6.5) V18(-6.5,6.5) V19(-5.5,6.5) V20(-4.5,6.5) V21(-3.5,6.5) V22(-2.5,6.5) V23(-1.5,6.5) V24(-0.5,6.5) V25(0.5,6.5) V26(1.5,6.5) V27(2.5,6.5) V28(3.5,6.5) V29(4.5,6.5) V30(5.5,6.5) V31(6.5,6.5) V32(7.5,6.5) V33(8.5,6.5) V34(9.5,6.5) V35(10.5,6.5) V36(11.5,6.5) V37(12.5,6.5) V38(13.5,6.5) V39(14.5,6.5) V40(15.5,6.5) V41(16.5,6.5) V42(17.5,6.5) V43(18.5,6.5) V44(19.5,6.5) V45(20.5,6.5) V46(21.5,6.5) V47(22.5,6.5) V48(23.5,6.5) W1(-23.5,5.5) W2(-22.5,5.5) W3(-21.5,5.5) W4(-20.5,5.5) W5(-19.5,5.5) W6(-18.5,5.5) W7(-17.5,5.5) W8(-16.5,5.5) W9(-15.5,5.5) W10(-14.5,5.5) W11(-13.5,5.5) W12(-12.5,5.5) W13(-11.5,5.5) W14(-10.5,5.5) W15(-9.5,5.5) W16(-8.5,5.5) W17(-7.5,5.5) W18(-6.5,5.5) W19(-5.5,5.5) W20(-4.5,5.5) W21(-3.5,5.5) W22(-2.5,5.5) W23(-1.5,5.5) W24(-0.5,5.5) W25(0.5,5.5) W26(1.5,5.5) W27(2.5,5.5) W28(3.5,5.5) W29(4.5,5.5) W30(5.5,5.5) W31(6.5,5.5) W32(7.5,5.5) W33(8.5,5.5) W34(9.5,5.5) W35(10.5,5.5) W36(11.5,5.5) W37(12.5,5.5) W38(13.5,5.5) W39(14.5,5.5) W40(15.5,5.5) W41(16.5,5.5) W42(17.5,5.5) W43(18.5,5.5) W44(19.5,5.5) W45(20.5,5.5) W46(21.5,5.5) W47(22.5,5.5) W48(23.5,5.5) Y1(-23.5,4.5) Y2(-22.5,4.5) Y3(-21.5,4.5) Y4(-20.5,4.5) Y5(-19.5,4.5) Y6(-18.5,4.5) Y7(-17.5,4.5) Y8(-16.5,4.5) Y9(-15.5,4.5) Y10(-14.5,4.5) Y11(-13.5,4.5) Y12(-12.5,4.5) Y13(-11.5,4.5) Y14(-10.5,4.5) Y15(-9.5,4.5) Y16(-8.5,4.5) Y17(-7.5,4.5) Y18(-6.5,4.5) Y19(-5.5,4.5) Y20(-4.5,4.5) Y21(-3.5,4.5) Y22(-2.5,4.5) Y23(-1.5,4.5) Y24(-0.5,4.5) Y25(0.5,4.5) Y26(1.5,4.5) Y27(2.5,4.5) Y28(3.5,4.5) Y29(4.5,4.5) Y30(5.5,4.5) Y31(6.5,4.5) Y32(7.5,4.5) Y33(8.5,4.5) Y34(9.5,4.5) Y35(10.5,4.5) Y36(11.5,4.5) Y37(12.5,4.5) Y38(13.5,4.5) Y39(14.5,4.5) Y40(15.5,4.5) Y41(16.5,4.5) Y42(17.5,4.5) Y43(18.5,4.5) Y44(19.5,4.5) Y45(20.5,4.5) Y46(21.5,4.5) Y47(22.5,4.5) Y48(23.5,4.5)
Top Overlay:
  circle w0.25: c-25.65,23.5 r0.125
  region: -24,25 -25,24 -25,25
  lines w0.2: -25,24 -24,25 ; -25,-25 25,-25 25,25 -25,25 -25,-25
Mechanical 13:
  lines w0.1: -25,-25 25,-25 25,25 -25,25 -25,-25
Mechanical 15:
  lines w0.1: -0.5,0 0.5,0 ; 0,-0.5 0,0.5 ; -26,-26 26,-26 26,26 -26,26 -26,-26
3D body: height 3.5, standoff 0, extent -25,-25 25,25